# Altium schematic symbol library Connector-2pins.Schlib: 1 symbol
Pins are listed as number, name and electrical type; pins without a type are passive.

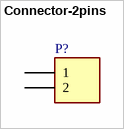
[diagram p0: symbol Connector-2pins]

## Connector-2pins
designator P?
Connector 2 pins
pins: 1, 2